# Altium footprint library TANTALUM_A.PcbLib: 1 footprints
Each footprint in its own frame and in the unit in brackets; x right, y up, seen from the top. Pads: shape width x height; smd on the part's side, far side on the other; paste and mask are expansions set on the pad; w line width, h text height; cw(c..) or ccw(c..) is an arc to the next point about the centre after c.
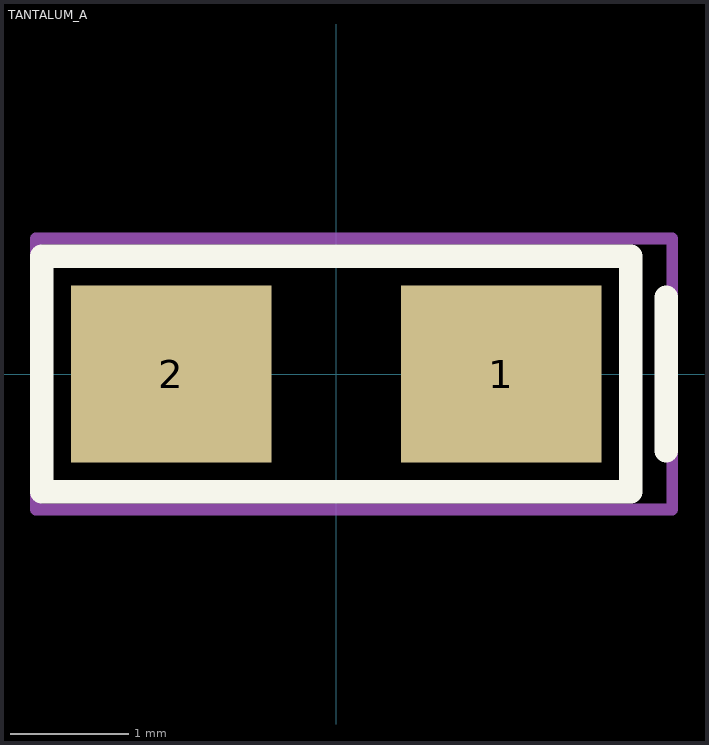
[diagram p0: the footprint, top view; thin cyan lines are the x and y axes]

## TANTALUM_A [mm]
pads (2):
  rect 1.7x1.5 smd: 1(1.4,0) 2(-1.4,0)
Top Overlay:
  lines w0.2: 2.8,-0.65 2.8,0.65 ; -2.5,-1 2.5,-1 2.5,1 -2.5,1 -2.5,-1
Top Courtyard:
  lines w0.1: -2.55,-1.15 -2.55,1.15 2.85,1.15 2.85,-1.15 -2.55,-1.15
3D body "T491A106M010AT.step": height 1.81, standoff 0, extent -1.7,-0.9 1.7,0.9